# Altium schematic symbol library Movandi_21.SchLib: 2 symbols
Pins are listed as number, name and electrical type; pins without a type are passive.

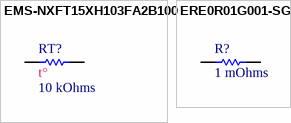
[diagram p0: symbols EMS-NXFT15XH103FA2B100 to ERE0R01G001-SG]

## EMS-NXFT15XH103FA2B100
designator RT?, comment value 10 kOhms  4th Auxiliary Field: t°  (hidden comment: THERMISTOR NTC 10KOHM 3380K BEAD)  (mechanical)
Manufacturer Part Number: NXFT15XH103FA2B100; Manufacturer: Murata Electronics; Internal Part Number: EMS-NXFT15XH103FA2B100; Vendor Part Number: 490-5630-ND; 3rd Auxiliary Field: ROHS3 Compliant; Temp Co: -40°C ~ 125°C; Vendor Name: Digi-Key; 2nd Auxiliary Field: 1 %; Component Height (mm): *; Part Type: THERMISTOR NTC 10KOHM 3380K BEAD; 1st Auxiliary Field: NTC
pins: 1, 2

## ERE0R01G001-SG
designator R?, comment value 1 mOhms  (hidden comment: RES 0.001 OHM 1% 1W 1206)
Manufacturer Part Number: CSNL1206FT1L00; Manufacturer: Stackpole Electronics Inc; Internal Part Number: ERE0R01G001-SG; Vendor Part Number: CSNL1206FT1L00CT-ND; Component Height (mm): 0.90mm; 3rd Auxiliary Field: ROHS3 Compliant; Vendor Name: Digi-Key; Temp Co: -55°C ~ 170°C; Part Type: RES 0.001 OHM 1% 1W 1206; 4th Auxiliary Field: *; 1st Auxiliary Field: 1W; 2nd Auxiliary Field: ±1%
footprint SMDR1206
pins: 1, 2